# EAGLE library part SN74LVC125AIPWREP (library SN74LVC125AIPWREP)
Enhanced Product Quadruple Bus Buffer Gate With 3-State Outputs Source: Datasheet <http://www.ti.com/lit/gpn/SN74LVC125A-EP>
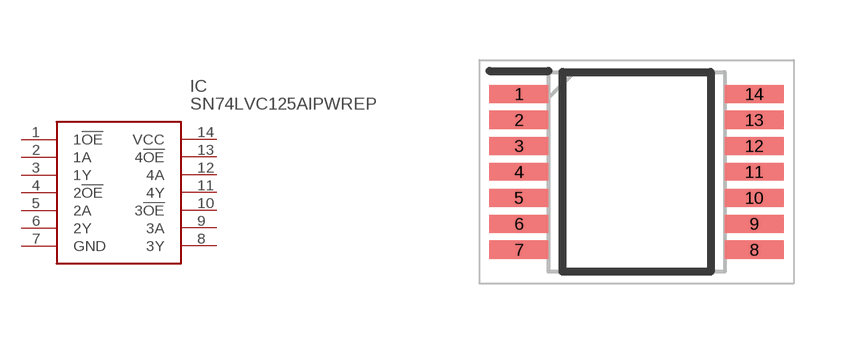
[diagram p0: symbol with the pads of SOP65P640X120-14N; footprint SOP65P640X120-14N]

Designator prefix IC

## SN74LVC125AIPWREP (Description: Enhanced Product Quadruple Bus Buffer Gate With 3-State Outputs; Height: 1.2mm; Manufacturer_Name: Texas Instruments; Manufacturer_Part_Number: SN74LVC125AIPWREP; Mouser_Part_Number: 595-N74LVC125AIPWREP; Mouser_Price-Stock: https://www.mouser.co.uk/ProductDetail/Texas-Instruments/SN74LVC125AIPWREP?qs=UFeyouyReuEl9Mj0F8eWFA%3D%3D)  [SOP65P640X120-14N]
1  1!OE
2  1A
3  1Y
4  2!OE
5  2A
6  2Y
7  GND
8  3Y
9  3A
10  3!OE
11  4Y
12  4A
13  4!OE
14  VCC

## Footprint SOP65P640X120-14N (pad centres in mm)
PW
smd 1.475 x 0.45: 1 -2.938,1.95; 2 -2.938,1.3; 3 -2.938,0.65; 4 -2.938,0; 5 -2.938,-0.65; 6 -2.938,-1.3; 7 -2.938,-1.95; 8 2.938,-1.95; 9 2.938,-1.3; 10 2.938,-0.65; 11 2.938,0; 12 2.938,0.65; 13 2.938,1.3; 14 2.938,1.95